# EAGLE library part MEMORY-SPI (library firefly)
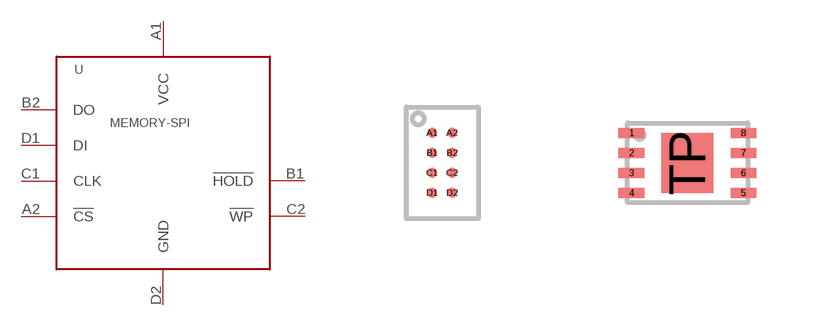
[diagram p13: symbol with the pads of WLBGA-8; footprints WLBGA-8, UDFN-8]

Designator prefix -

## MEMORY-SPIWLBGA-8  [WLBGA-8]
A1  VCC
A2  !CS
B1  !HOLD
B2  DO
C1  CLK
C2  !WP
D1  DI
D2  GND

## MEMORY-SPI  [UDFN-8]
1  !CS
2  DO
3  !WP
4  GND
5  DI
6  CLK
7  !HOLD
8  VCC

## MEMORY-SPIUFDFN-8-EP  [UFDFN-8-EP]
Pads as for UDFN-8

## MEMORY-SPISOIC8  [SOIC8]
Pads as for UDFN-8

## MEMORY-SPISOA008  [SOA008]
Pads as for UDFN-8

## MEMORY-SPISOC008  [SOC008]
Pads as for UDFN-8

## Footprint WLBGA-8 (pad centres in mm)
smd 0.25 x 0.25: A1 -0.25,0.75; A2 0.25,0.75; B1 -0.25,0.25; B2 0.25,0.25; C1 -0.25,-0.25; C2 0.25,-0.25; D1 -0.25,-0.75; D2 0.25,-0.75

## Footprint UDFN-8 (pad centres in mm)
smd 0.65 x 0.25: 1 -1.4,0.75; 2 -1.4,0.25; 3 -1.4,-0.25; 4 -1.4,-0.75; 5 1.4,-0.75; 6 1.4,-0.25; 7 1.4,0.25; 8 1.4,0.75
smd 1.3 x 1.5: TP 0,0

## Footprint UFDFN-8-EP (pad centres in mm)
smd 0.65 x 0.25: 1 -1.4,0.75; 2 -1.4,0.25; 3 -1.4,-0.25; 4 -1.4,-0.75; 5 1.4,-0.75; 6 1.4,-0.25; 7 1.4,0.25; 8 1.4,0.75

## Footprint SOIC8 (pad centres in mm)
smd 2.2 x 0.6: 1 -1.45,1.905; 2 -1.45,0.635; 3 -1.45,-0.635; 4 -1.45,-1.905; 5 1.45,-1.905; 6 1.45,-0.635; 7 1.45,0.635; 8 1.45,1.905

## Footprint SOA008 (pad centres in mm)
smd 2.2 x 0.76: 1 -2.6,1.905; 2 -2.6,0.635; 3 -2.6,-0.635; 4 -2.6,-1.905; 5 2.6,-1.905; 6 2.6,-0.635; 7 2.6,0.635; 8 2.6,1.905

## Footprint SOC008 (pad centres in mm)
smd 2.2 x 0.76: 1 -3.6,1.905; 2 -3.6,0.635; 3 -3.6,-0.635; 4 -3.6,-1.905; 5 3.6,-1.905; 6 3.6,-0.635; 7 3.6,0.635; 8 3.6,1.905